# EAGLE library part M24LR64E-R (library Memory)
64-Kbit EEPROM with password protection, dual interface & energy harvesting: 400 kHz I²C bus & ISO 15693 RF protocol at 13.56 MHz Datasheet <http://www.st.com/web/en/resource/technical/document/datasheet/DM00047008.pdf>
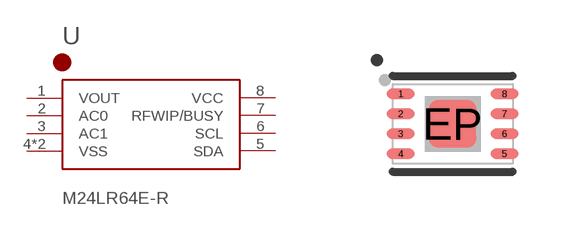
[diagram p6: symbol with the pads of UFDFPN8; footprint UFDFPN8]

Designator prefix U

## M24LR64E-RMC (PARTNO: 01-100454-00)  [UFDFPN8]
1  VOUT  out
2  AC0  pas
3  AC1  pas
4  VSS  pwr
5  SDA
6  SCL  in
7  RFWIP/BUSY  out
8  VCC  pwr
EP  VSS  pwr

## Footprint UFDFPN8 (pad centres in mm)
UFDFPN8 (MLP8) – 8-lead ultra thin fine pitch dual flat package no lead 2 × 3mm, package outline M24LR64E-RMC Changelog: 061815 - Add tDocu, Tighten pads 1.5mm -> 1.3mm, Round pads
smd 0.7 x 0.25: 1 -1.3,0.75; 2 -1.3,0.25; 3 -1.3,-0.25; 4 -1.3,-0.75; 5 1.3,-0.75; 6 1.3,-0.25; 7 1.3,0.25; 8 1.3,0.75
smd 1.2 x 1.2: EP 0,0